# Altium schematic symbol library CBR02C709B5GAC.SchLib: 1 symbol
Pins are listed as number, name and electrical type; pins without a type are passive.

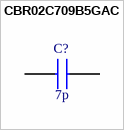
[diagram p0: symbol CBR02C709B5GAC]

## CBR02C709B5GAC
designator C?, comment 7p
CBR-SMD RF C0G, Ceramic, 7 pF, +/-0.1 pF, 50 VDC, 125 VDC, 125C, -55C, C0G, SMD, Fixed, RF, Ultra High Q, Low ESR, Class I, 0.18 % , 10 GOhms, 540, 0.3 mg, 0201, 0.6mm, 0.3mm, 0.3mm, 0.15mm, 15000, 78  Weeks, 120; Manufacturer_Name: KEMET; Manufacturer_Part_Number: CBR02C709B5GAC; Geometry.Height: 0.33mm; Mouser Part Number: *; Mouser Price/Stock: *; Arrow Part Number: *; Arrow Price/Stock: *; Datasheet Link: http://www.kemet.com/Lists/ProductCatalog/Attachments/490/KEM_C1030_CBR_SMD.pdf
footprint CAPC0603X33N
pins: 1, 2